# EAGLE library part TPS6125X (library jonsowman)
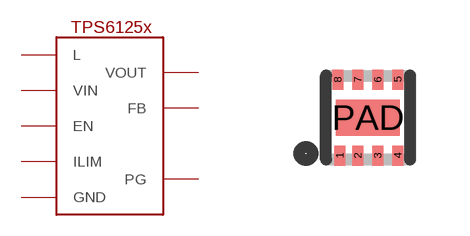
[diagram p23: symbol with the pads of TPX6125X; footprint TPX6125X]

Designator prefix -

## TPS6125X  [TPX6125X]
1  GND  pwr
2  VOUT  pwr
3  FB
4  ILIM
5  PG
6  EN
7  L
8  VIN  pwr
PAD  GND  pwr

## Footprint TPX6125X (pad centres in mm)
smd 0.28 x 0.5: 1 -0.7,-0.95; 2 -0.25,-0.95; 3 0.25,-0.95; 4 0.75,-0.95; 5 0.75,0.95; 6 0.25,0.95; 7 -0.25,0.95; 8 -0.75,0.95
smd 1.6 x 0.9: PAD 0,0